# Altium footprint library Board.PcbLib: 8 footprints
Each footprint in its own frame and in the unit in brackets; x right, y up, seen from the top. Pads: shape width x height; smd on the part's side, far side on the other; paste and mask are expansions set on the pad; w line width, h text height; cw(c..) or ccw(c..) is an arc to the next point about the centre after c.
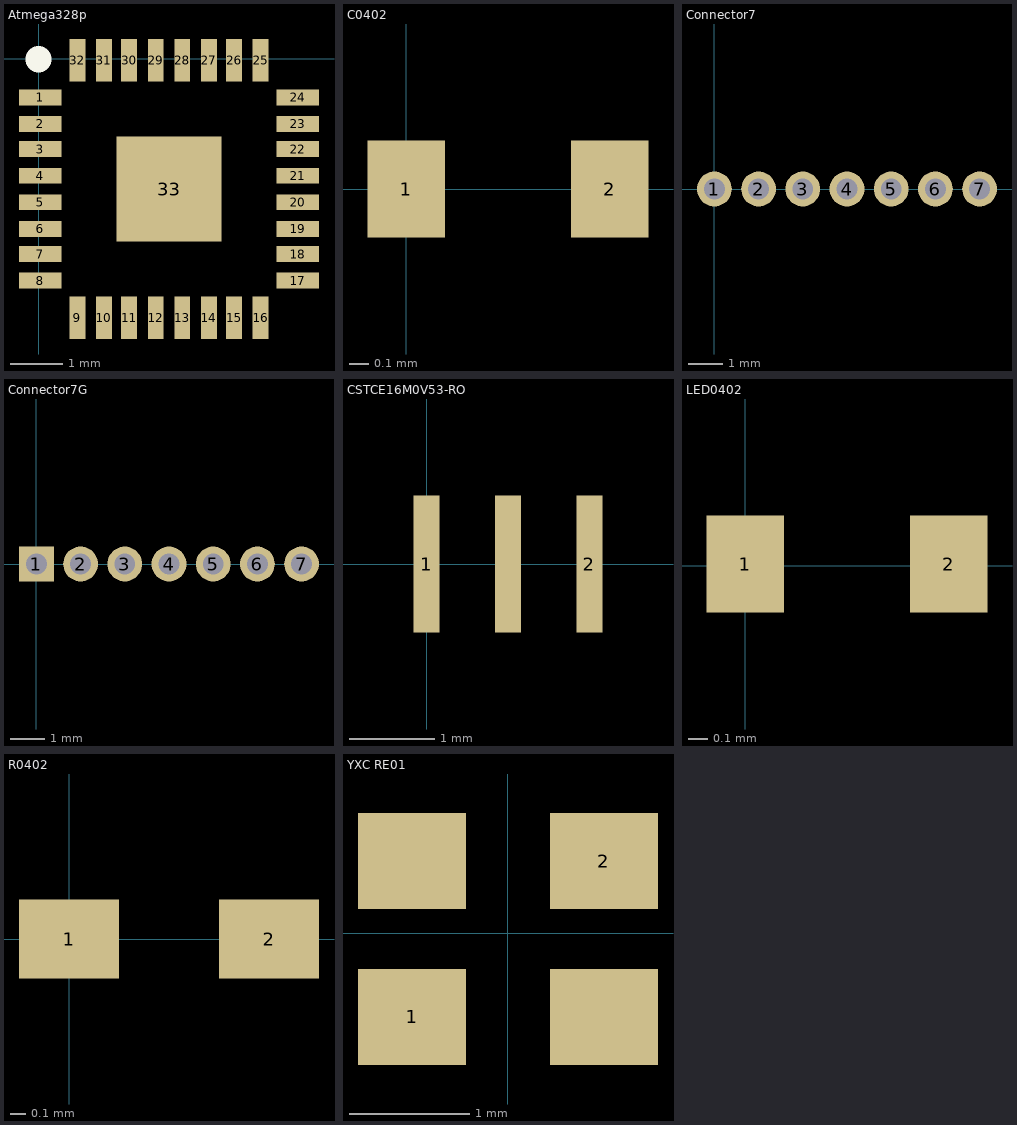
[diagram p0: the footprints below, top view; thin cyan lines are the x and y axes]

## Atmega328p [mil]
pads (33):
  rect 32x12 smd: 1(1.19,-29.07) 2(1.19,-49.07) 3(1.19,-68.07) 4(1.19,-88.07) 5(1.19,-108.07) 6(1.19,-128.07) 7(1.19,-147.07) 8(1.19,-167.07) 17(195.19,-167.07) 18(195.19,-147.07) 19(195.19,-128.07) 20(195.19,-108.07) 21(195.19,-88.07) 22(195.19,-68.07) 23(195.19,-49.07) 24(195.19,-29.07)
  rect 12x32 smd: 9(29.19,-195.07) 10(49.19,-195.07) 11(68.19,-195.07) 12(88.19,-195.07) 13(108.19,-195.07) 14(128.19,-195.07) 15(147.19,-195.07) 16(167.19,-195.07) 25(167.19,-1.07) 26(147.19,-1.07) 27(128.19,-1.07) 28(108.19,-1.07) 29(88.19,-1.07) 30(68.19,-1.07) 31(49.19,-1.07) 32(29.19,-1.07)
  rect 78.74x78.74 smd: 33(98.19,-98.07)
Top Overlay:
  lines w19.68: 0,-0.43 0,0
3D body "atmega328p.STEP": height 39.76, standoff 0, extent 3.16,-198.42 200.01,-1.57

## C0402 [mm]
height 0.5
pads (2):
  rect 0.4x0.5 smd: 1(0,0) 2(1.05,0)
3D body: height 1.2, standoff 0, extent 0.61,-0.47 0.61,-0.47
3D body "C0402.STEP": height 0.53, standoff -0.01, extent 0,-0.27 1.04,0.27

## Connector7 [mm]
pads (7):
  round 1 hole 0.6: 1(0,0) 2(1.27,0) 3(2.54,0) 4(3.81,0) 5(5.08,0) 6(6.35,0) 7(7.62,0)
3D body "connector3.STEP": height 0.77, standoff -7.23, extent 7.016,-0.584 8.224,0.59
3D body "connector3.STEP": height 0.77, standoff -7.23, extent 5.746,-0.584 6.954,0.59
3D body "connector3.STEP": height 0.77, standoff -7.23, extent 4.476,-0.584 5.684,0.59
3D body "connector3.STEP": height 0.77, standoff -7.23, extent 3.206,-0.584 4.414,0.59
3D body "connector3.STEP": height 0.77, standoff -7.23, extent 1.936,-0.584 3.144,0.59
3D body "connector3.STEP": height 0.77, standoff -7.23, extent 0.666,-0.584 1.874,0.59
3D body "connector3.STEP": height 0.77, standoff -7.23, extent -0.604,-0.584 0.604,0.59
3D body: height 0.25, standoff -2.54, extent 0,0 0,0

## Connector7G [mm]
pads (7):
  rect 1x1 hole 0.6: 1(0,0)
  round 1 hole 0.6: 2(1.27,0) 3(2.54,0) 4(3.81,0) 5(5.08,0) 6(6.35,0) 7(7.62,0)
3D body "connector3.STEP": height 0.77, standoff -7.23, extent 7.016,-0.584 8.224,0.59
3D body "connector3.STEP": height 0.77, standoff -7.23, extent 5.746,-0.584 6.954,0.59
3D body "connector3.STEP": height 0.77, standoff -7.23, extent 4.476,-0.584 5.684,0.59
3D body "connector3.STEP": height 0.77, standoff -7.23, extent 3.206,-0.584 4.414,0.59
3D body "connector3.STEP": height 0.77, standoff -7.23, extent 1.936,-0.584 3.144,0.59
3D body "connector3.STEP": height 0.77, standoff -7.23, extent 0.666,-0.584 1.874,0.59
3D body "connector3.STEP": height 0.77, standoff -7.23, extent -0.604,-0.584 0.604,0.59

## CSTCE16M0V53-RO [mm]
pads (3):
  rect 0.3x1.6 smd: 1(0,0) 2(1.9,0) ""(0.95,0)
3D body "CSTCE16M0V53-RO.STEP": height 1.01, standoff -0.02, extent -0.65,-0.69 2.55,0.664

## LED0402 [mm]
pads (2):
  rect 0.4x0.5 smd: 1(0,0.01) 2(1.05,0.01)
3D body "LED0402.STEP": height 0.4, standoff -0.02, extent -0.002,-0.26 1.04,0.28

## R0402 [mm]
pads (2):
  rect 0.635x0.5 smd: 1(0,0) 2(1.27,0)
3D body "R0402.STEP": height 0.53, standoff -0.01, extent 0.1,-0.27 1.14,0.27

## YXC RE01 [mm]
height 0.5
pads (4):
  rect 0.9x0.8 smd: 1(-0.8,-0.7) 2(0.8,0.6) ""(-0.8,0.6) ""(0.8,-0.7)
3D body: height 0.5, standoff 0, extent -1.1,-1 1.1,0.85